# Altium footprint library CONN_DC_JACK_2.1mmID_5.5mmOD_RA_TH.PcbLib: 1 footprints
Each footprint in its own frame and in the unit in brackets; x right, y up, seen from the top. Pads: shape width x height; smd on the part's side, far side on the other; paste and mask are expansions set on the pad; w line width, h text height; cw(c..) or ccw(c..) is an arc to the next point about the centre after c.
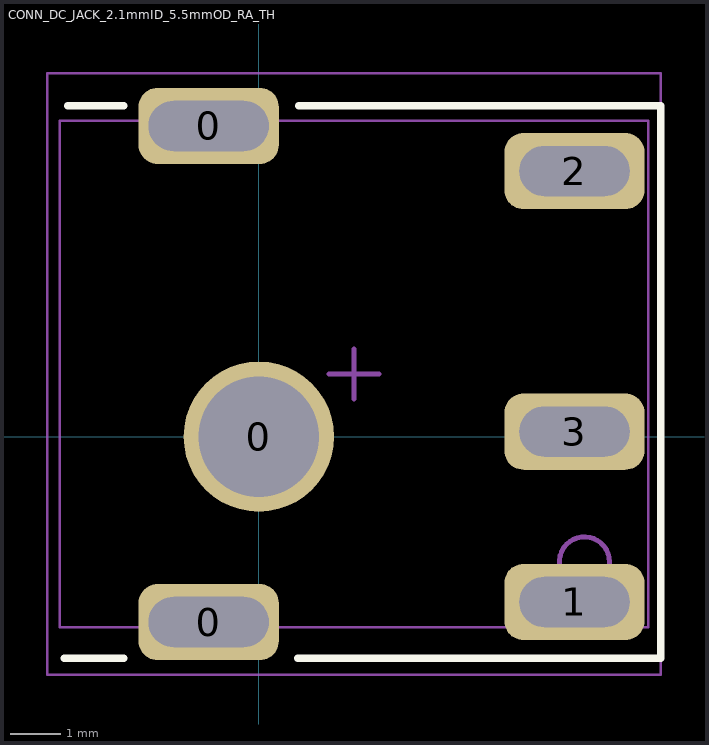
[diagram p0: the footprint, top view; thin cyan lines are the x and y axes]

## CONN_DC_JACK_2.1mmID_5.5mmOD_RA_TH [mm]
pads (6):
  rrect50% 2.8x1.524 hole 1 slot 2.4 at 0 deg: 0(-1,-3.7) 0(-1,6.2)
  round 3 hole 2.4: 0(0,0)
  rrect50% 2.8x1.524 hole 1 slot 2.2 at 0 deg: 1(6.3,-3.3) 2(6.3,5.3) 3(6.3,0.1)
Top Overlay:
  lines w0.15: -3.886,-4.42 -2.7,-4.425 ; -3.81,6.604 -2.7,6.6 ; 0.778,-4.425 8.025,-4.425 8.025,6.6 5.3,6.6 0.8,6.6
Top Assembly:
  circle w0.1: c6.5,-2.5 r0.5
  lines w0.05: -3.975,-3.8 -3.975,6.3 7.775,6.3 7.775,-3.8 -3.975,-3.8
  text ".designator" at -0.777,2.445 h1.52
Top Courtyard:
  lines w0.05: -4.225,-4.75 8.025,-4.75 8.025,7.25 -4.225,7.25 -4.225,-4.75
  lines w0.1: 1.4,1.25 2.4,1.25 ; 1.9,0.75 1.9,1.75
3D body "CUI_DEVICES_PJ-051AH.STEP": height 7.3, standoff -2.5, extent -3.975,-3.8 7.775,6.3